# EAGLE library part STM32F030F4P6 (library pulseoxparts)
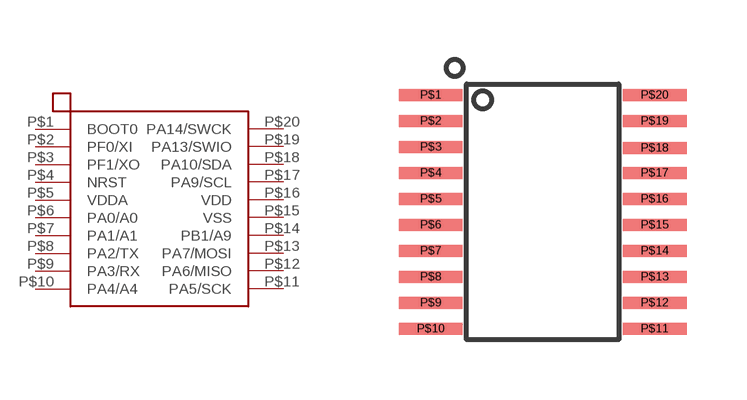
[diagram p2: symbol with the pads of TSSOP-20; footprint TSSOP-20]

Designator prefix -

## STM32F030F4P6  [TSSOP-20]
P$1  BOOT0
P$2  PF0/XI
P$3  PF1/XO
P$4  NRST
P$5  VDDA
P$6  PA0/A0
P$7  PA1/A1
P$8  PA2/TX
P$9  PA3/RX
P$10  PA4/A4
P$11  PA5/SCK
P$12  PA6/MISO
P$13  PA7/MOSI
P$14  PB1/A9
P$15  VSS
P$16  VDD
P$17  PA9/SCL
P$18  PA10/SDA
P$19  PA13/SWIO
P$20  PA14/SWCK

## Footprint TSSOP-20 (pad centres in mm)
smd 1.6 x 0.3: P$1 -2.8,2.925; P$2 -2.8,2.275; P$3 -2.8,1.625; P$4 -2.8,0.975; P$5 -2.8,0.325; P$6 -2.8,-0.325; P$7 -2.8,-0.975; P$8 -2.8,-1.625; P$9 -2.8,-2.275; P$10 -2.8,-2.925; P$11 2.8,-2.925; P$12 2.8,-2.275; P$13 2.8,-1.625; P$14 2.8,-0.975; P$15 2.8,-0.325; P$16 2.8,0.325; P$17 2.8,0.975; P$18 2.8,1.6; P$19 2.8,2.275; P$20 2.8,2.925